# Altium schematic symbol library usb.SchLib: 14 symbols
Pins are listed as number, name and electrical type; pins without a type are passive.

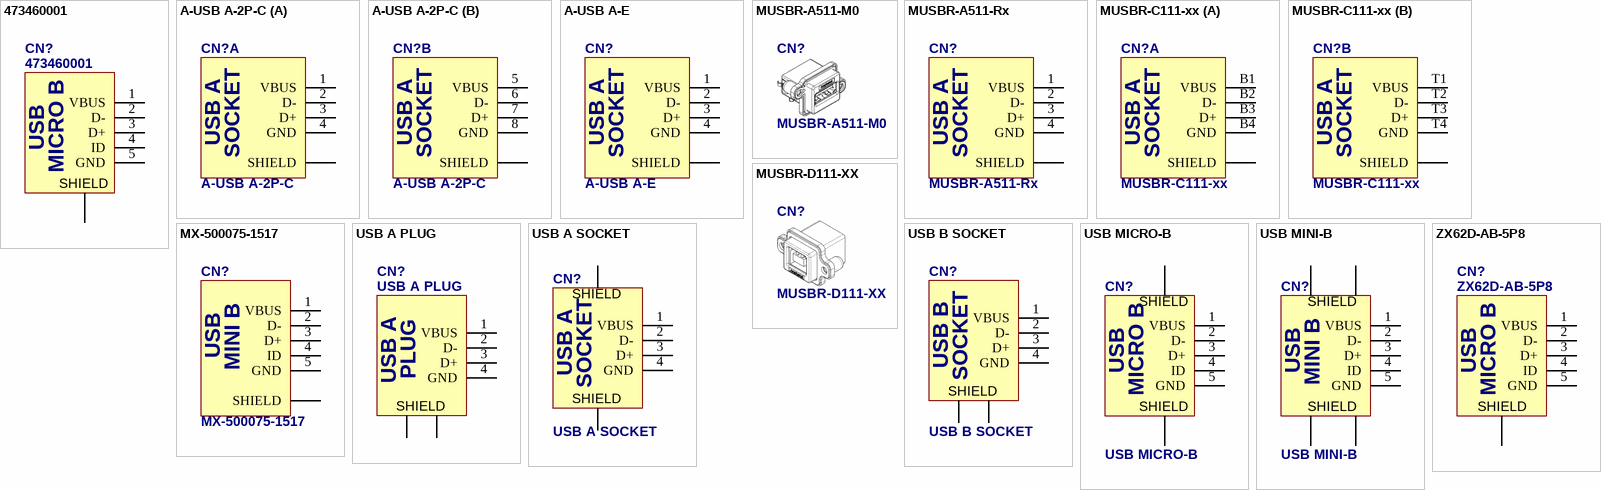
[diagram p0: symbols 473460001 to ZX62D-AB-5P8]

## 473460001
designator CN?
Molex 473460001 microUSB Connector; Published: 20-Mar-2006; Supplier 1: Farnell; Supplier 2: TME; Supplier Part Number 1: 2426321; Supplier Part Number 2: MX-47346-0001
footprint 473460001 (Molex 473460001 microUSB Connector)
pins: 1 VBUS "+5 VDC", 2 D- "Data -", 3 D+ "Data +", 4 ID "Ground", 5 GND "Ground", S SHIELD "Shield"
text: USB; MICRO B

## A-USB A-2P-C
designator CN?
ASSMANN WSW Dual USB A DIP Connector; Published: 20-Mar-2006
footprint A-USB A-2P-C (ASSMANN WSW USB, style A, dual port, DIP)
part A pins: 1 VBUS "+5 VDC", 2 D- "Data -", 3 D+ "Data +", 4 GND "Ground", SHLD1 SHIELD "Ground", SHLD2 SHIELD "Ground"
part B pins: 5 VBUS "+5 VDC", 6 D- "Data -", 7 D+ "Data +", 8 GND "Ground", SHLD3 SHIELD "Ground", SHLD4 SHIELD "Ground"
part A text: USB A; SOCKET
part B text: USB A; SOCKET

## A-USB A-E
designator CN?
ASSMANN WSW Vertical USB A DIP Connector
footprint A-USB A-E (ASSMANN WSW USB, style A, vertical, DIP)
pins: 1 VBUS "+5 VDC", 2 D- "Data -", 3 D+ "Data +", 4 GND "Ground", SHLD1 SHIELD "Ground", SHLD2 SHIELD "Ground", SHLD3 SHIELD "Ground", SHLD4 SHIELD "Ground"
text: USB A; SOCKET

## MUSBR-A511-M0
designator CN?
footprint MUSBR-A511-Mx-FRONT-PANEL (AMPHENOL)

## MUSBR-A511-Rx
designator CN?
Amphenol MUSBR-A511-Rx
footprint MUSBR-A511-Rx (AMPHENOL)
pins: 1 VBUS "+5 VDC", 2 D- "Data -", 3 D+ "Data +", 4 GND "Ground", SHLD1 SHIELD "Ground", SHLD2 SHIELD "Ground"
text: USB A; SOCKET

## MUSBR-C111-xx
designator CN?
Amphenol MUSBR-C111-xx
footprint MUSB-C111-30
part A pins: B1 VBUS "+5 VDC", B2 D- "Data -", B3 D+ "Data +", B4 GND "Ground", SHLD1 SHIELD "Ground"
part B pins: SHLD2 SHIELD "Ground", T1 VBUS "+5 VDC", T2 D- "Data -", T3 D+ "Data +", T4 GND "Ground"
part A text: USB A; SOCKET
part B text: USB A; SOCKET

## MUSBR-D111-XX
designator CN?
footprint MUSBR-D111-xx-FRONT-PANEL (AMPHENOL)

## MX-500075-1517
designator CN?
USB On-The-Go (OTG) Mini-B Receptacle, Vertical, Through Hole Solder Tails and Shell Tabs; Published: 20-Mar-2006
footprint MX-500075-1517 (USB On-The-Go (OTG) Mini-B Receptacle, Vertical, Through Hole Solder Tails and Shell Tabs)
pins: 1 VBUS "+5 VDC", 2 D- "Data -", 3 D+ "Data +", 4 ID "Ground", 5 GND "Ground", SHLD1 SHIELD "Shield", SHLD2 SHIELD "Shield"
text: USB; MINI B

## USB A PLUG
designator CN?
USB connector; Published: 20-Mar-2006
footprint USBA-LP (USB-A PCB Angle Socket)
pins: 1 VBUS "+5 VDC", 2 D- "Data -", 3 D+ "Data +", 4 GND "Ground", 5 SHIELD "Shield", 6 SHIELD "Shield"
text: PLUG; USB A

## USB A SOCKET
designator CN?
USB connector; Published: 20-Mar-2006
footprint USBA-G (USB-A PCB Angle Socket)
pins: 1 VBUS "+5 VDC", 2 D- "Data -", 3 D+ "Data +", 4 GND "Ground", 5 SHIELD "Shield", 6 SHIELD "Shield"
text: USB A; SOCKET

## USB B SOCKET
designator CN?
USB connector; Published: 20-Mar-2006
footprint USBB-G (USB-B PCB Angle Socket)
footprint USBB-BV (Connfly USB-B Vertical Connector (DS1099-01-WN0))
pins: 1 VBUS "+5 VDC", 2 D- "Data -", 3 D+ "Data +", 4 GND "Ground", 5 SHIELD "Shield", 6 SHIELD "Shield"
text: USB B; SOCKET

## USB MICRO-B
designator CN?
mini USB connector; Published: 20-Mar-2006
footprint USB-MICRO-B SMD
pins: 1 VBUS "+5 VDC", 2 D- "Data -", 3 D+ "Data +", 4 ID "Ground", 5 GND "Ground", 6 SHIELD "Shield", 7 SHIELD "Shield"
text: USB; MICRO B

## USB MINI-B
designator CN?
USB Mini-B Receptacle; Published: 20-Mar-2006
footprint USB-MINI-B SMD
pins: 1 VBUS "+5 VDC", 2 D- "Data -", 3 D+ "Data +", 4 ID "Ground", 5 GND "Ground", 6 SHIELD "Shield", 7 SHIELD "Shield", 8 SHIELD "Shield", 9 SHIELD "Shield"
text: USB; MINI B

## ZX62D-AB-5P8
designator CN?
Hirose USB Micro AB Receptable (PartNo: ZX62D-AB-5P8); Published: 20-Mar-2006
footprint ZX62D-B-5P8 (Hirose USB Micro B Receptable (PartNo: ZX62D-B-5P8))
pins: 1 VBUS "+5 VDC", 2 D- "Data -", 3 D+ "Data +", 4 ID "Ground", 5 GND "Ground", 7 SHIELD "Shield"
text: USB; MICRO B